# EAGLE library part CONFIGURATION_BRD_PADS (library CYCFI_Module_castellated)
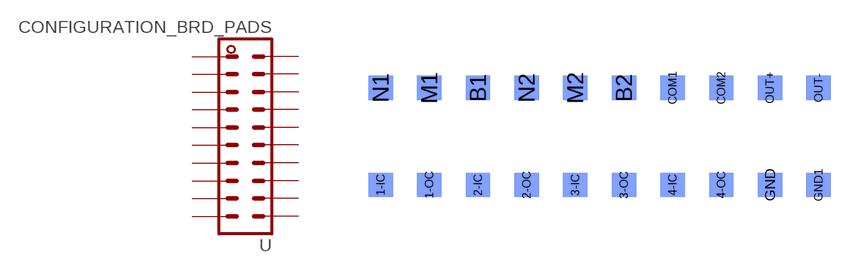
[diagram p2: symbol with the pads of CONFIGURATION_BRD_PADS; footprint CONFIGURATION_BRD_PADS]

Designator prefix -

## CONFIGURATION_BRD_PADS  [CONFIGURATION_BRD_PADS]
1-IC  1-IC  pas
1-OC  1-OC  pas
2-IC  2-IC  pas
2-OC  2-OC  pas
3-IC  3-IC  pas
3-OC  3-OC  pas
4-IC  4-IC  pas
4-OC  4-OC  pas
B1  B1  pas
B2  B2  pas
COM1  COM1  pas
COM2  COM2  pas
GND  GND  pas
GND1  GND1  pas
M1  M1  pas
M2  M2  pas
N1  N1  pas
N2  N2  pas
OUT+  OUT+  pas
OUT-  OUT-  pas

## Footprint CONFIGURATION_BRD_PADS (pad centres in mm)
smd 1.27 x 1.27 bottom: 1-IC -7.62,-2.54; 1-OC -5.08,-2.54; 2-IC -2.54,-2.54; 2-OC 0,-2.54; 3-IC 2.54,-2.54; 3-OC 5.08,-2.54; 4-IC 7.62,-2.54; 4-OC 10.16,-2.54; B1 -2.54,2.54; B2 5.08,2.54; COM1 7.62,2.54; COM2 10.16,2.54; GND 12.7,-2.54; GND1 15.24,-2.54; M1 -5.08,2.54; M2 2.54,2.54; N1 -7.62,2.54; N2 0,2.54; OUT+ 12.7,2.54; OUT- 15.24,2.54